# Altium footprint library LCD_OLED_128X64_1.3_I2C.PcbLib: 1 footprints
Each footprint in its own frame and in the unit in brackets; x right, y up, seen from the top. Pads: shape width x height; smd on the part's side, far side on the other; paste and mask are expansions set on the pad; w line width, h text height; cw(c..) or ccw(c..) is an arc to the next point about the centre after c.
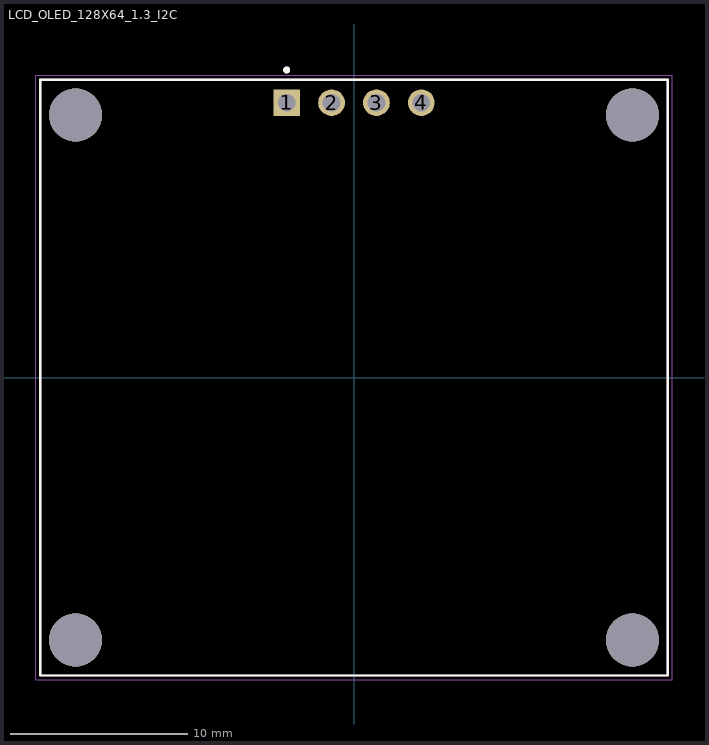
[diagram p0: the footprint, top view; thin cyan lines are the x and y axes]

## LCD_OLED_128X64_1.3_I2C [mm]
pads (8):
  rect 1.508x1.508 / inner round 1.508 / far side rect 1.508x1.508 hole 1: 1(-3.81,15.55)
  round 1.508 hole 1: 2(-1.27,15.55) 3(1.27,15.55) 4(3.81,15.55)
  round 3 hole 3 unplated: ""(-15.75,-14.85) ""(-15.75,14.85) ""(15.75,-14.85) ""(15.75,14.85)
Top Overlay:
  circle w0.2: c-3.81,17.4 r0.1
  lines w0.127: -17.75,-16.85 -17.75,16.85 17.75,16.85 17.75,-16.85 -17.75,-16.85
Assembly Top:
  circle w0.2: c-3.81,17.4 r0.1
  lines w0.127: -17.75,-16.85 -17.75,16.85 17.75,16.85 17.75,-16.85 -17.75,-16.85
Courtyard Top:
  lines w0.05: -18,-17.1 18,-17.1 18,17.1 -18,17.1 -18,-17.1